# Altium footprint library LMV793Lib.PcbLib: 1 footprints
Each footprint in its own frame and in the unit in brackets; x right, y up, seen from the top. Pads: shape width x height; smd on the part's side, far side on the other; paste and mask are expansions set on the pad; w line width, h text height; cw(c..) or ccw(c..) is an arc to the next point about the centre after c.
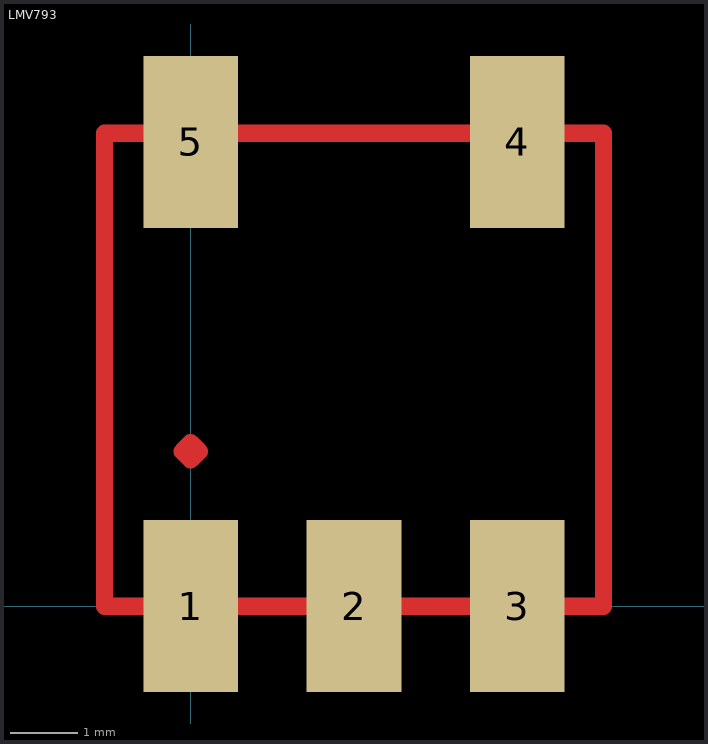
[diagram p0: the footprint, top view; thin cyan lines are the x and y axes]

## LMV793 [mil] "88 MHz, Low Noise, 1.8V CMOS Input, Decompensated Operational Amplifiers"
pads (5):
  rect 55x100 all layers, no hole: 1(0,0) 2(95,0) 3(190,0) 4(190,270) 5(0,270)
Top Layer:
  lines w10: 0,85 -5,90 0,95 ; 0,85 0,95 ; 0,85 5,90 0,95 ; -50,0 -50,275 240,275 240,0 167.5,0 22.5,0 -50,0